# Altium footprint library SAMTEC_TCMD-15-D-20.00-01-RW.PcbLib: 1 footprints
Each footprint in its own frame and in the unit in brackets; x right, y up, seen from the top. Pads: shape width x height; smd on the part's side, far side on the other; paste and mask are expansions set on the pad; w line width, h text height; cw(c..) or ccw(c..) is an arc to the next point about the centre after c.
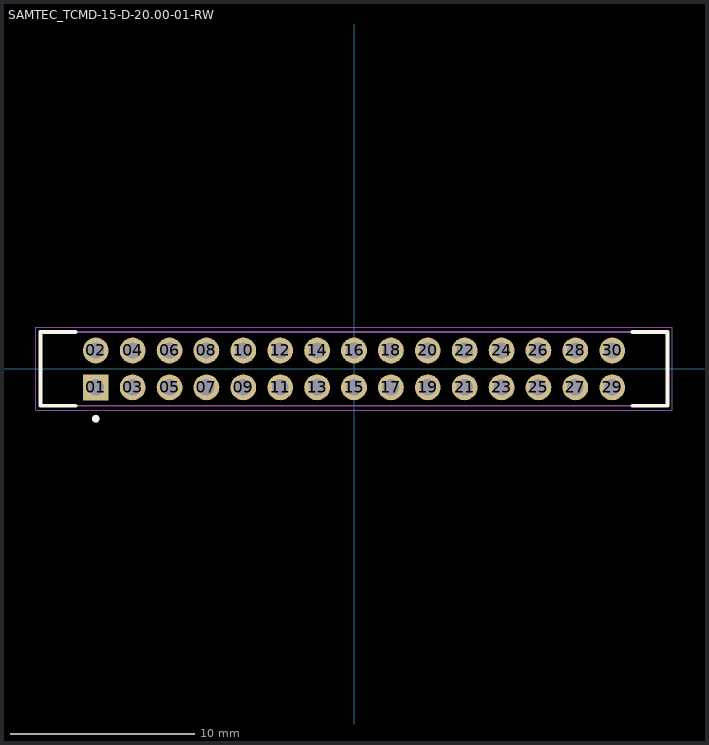
[diagram p0: the footprint, top view; thin cyan lines are the x and y axes]

## SAMTEC_TCMD-15-D-20.00-01-RW [mm]
height 5.334
pads (30):
  rect 1.398x1.398 / inner round 1.398 / far side rect 1.398x1.398 hole 0.89: 01(-14,-1)
  round 1.398 hole 0.89: 02(-14,1) 03(-12,-1) 04(-12,1) 05(-10,-1) 06(-10,1) 07(-8,-1) 08(-8,1) 09(-6,-1) 10(-6,1) 11(-4,-1) 12(-4,1) 13(-2,-1) 14(-2,1) 15(0,-1) 16(0,1) 17(2,-1) 18(2,1) 19(4,-1) 20(4,1) 21(6,-1) 22(6,1) 23(8,-1) 24(8,1) 25(10,-1) 26(10,1) 27(12,-1) 28(12,1) 29(14,-1) 30(14,1)
Top Overlay:
  circle w0.2: c-14,-2.7 r0.1
  lines w0.2: -15.1,-2 -17,-2 -17,2 -15.1,2 ; 15.1,-2 17,-2 17,2 15.1,2
Mechanical 13:
  circle w0.2: c-14,-2.7 r0.1
  lines w0.1: -17,-2 -17,2 17,2 17,-2 -17,-2
Mechanical 15:
  lines w0.05: -17.25,-2.25 17.25,-2.25 17.25,2.25 -17.25,2.25 -17.25,-2.25